# EAGLE library part MCP4922-E/SL (library _mtvl_ic)
Check availability <https://pricing.snapeda.com/parts/MCP4922-E/SL/Microchip/view-part?ref=eda>
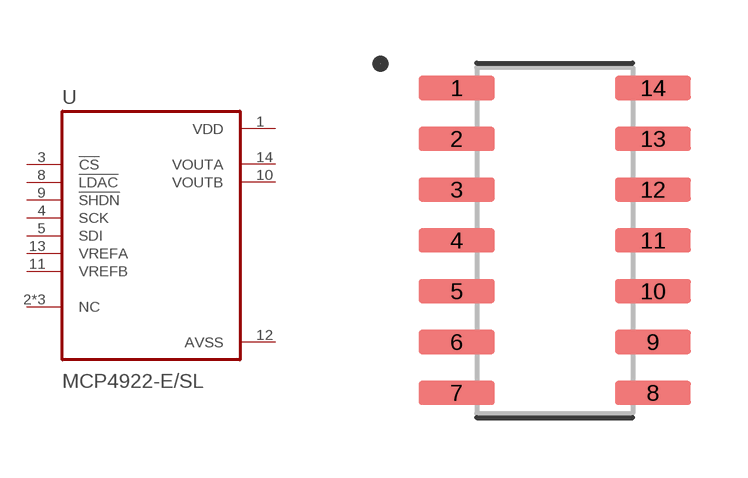
[diagram p47: symbol with the pads of SOIC127P600X175-14N; footprint SOIC127P600X175-14N]

Designator prefix U

## MCP4922-E/SL (AVAILABILITY: In Stock; DESCRIPTION: 12 Bit Digital to Analog Converter 2 14-SOIC; MF: Microchip; MP: MCP4922-E/SL; PACKAGE: SOIC-14 Microchip; PRICE: None; PURCHASE-URL: https://pricing.snapeda.com/search/part/MCP4922-E/SL/?ref=eda)  [SOIC127P600X175-14N]
1  VDD  pwr
2  NC
3  !CS  in
4  SCK  in
5  SDI  in
6  NC
7  NC
8  !LDAC  in
9  !SHDN  in
10  VOUTB  out
11  VREFB  in
12  AVSS  pwr
13  VREFA  in
14  VOUTA  out

## Footprint SOIC127P600X175-14N (pad centres in mm)
smd 1.9 x 0.6: 1 -2.455,3.81; 2 -2.455,2.54; 3 -2.455,1.27; 4 -2.455,0; 5 -2.455,-1.27; 6 -2.455,-2.54; 7 -2.455,-3.81; 8 2.455,-3.81; 9 2.455,-2.54; 10 2.455,-1.27; 11 2.455,0; 12 2.455,1.27; 13 2.455,2.54; 14 2.455,3.81